# Altium footprint library LASER_DIAGNOSTIC_BOARD.PcbLib: 26 footprints (part 2 of 2)
Each footprint in its own frame and in the unit in brackets; x right, y up, seen from the top. Pads: shape width x height; smd on the part's side, far side on the other; paste and mask are expansions set on the pad; w line width, h text height; cw(c..) or ccw(c..) is an arc to the next point about the centre after c.
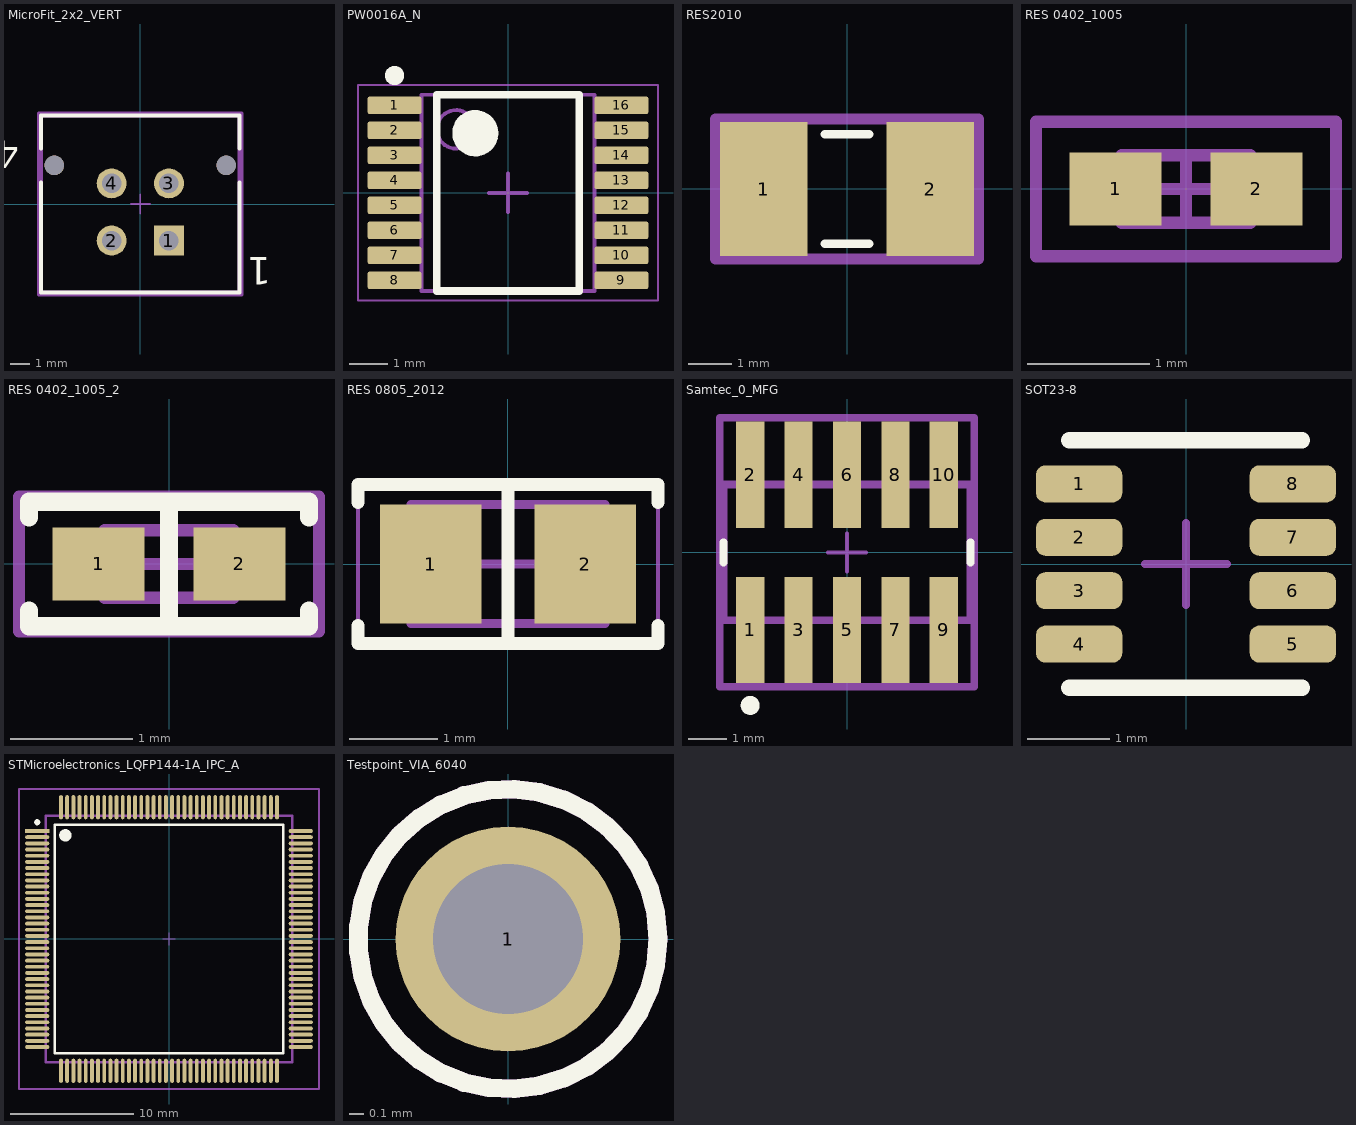
[diagram p1: the footprints below, top view; thin cyan lines are the x and y axes]

## MicroFit_2x2_VERT [mm]
pads (6):
  rect 1.57x1.57 hole 1.02 paste-2539.97: 1(1.5,-1.915)
  round 1.57 hole 1.02 paste-2539.97: 2(-1.5,-1.915) 3(1.5,1.085) 4(-1.5,1.085)
  round 1.02 hole 1.02 unplated paste-2539.97 mask+0: ""(-4.5,2.025) ""(4.5,2.025)
Top Overlay:
  lines w0.2: -5.2,1.14 -5.2,-4.635 5.2,-4.635 5.2,1.14 ; -5.2,2.91 -5.2,4.635 5.2,4.635 5.2,2.91
  text "1" at 6.858,-2.286 h2.5
  text "4" at -6.35,3.81 h2.5
Bottom Designator:
  lines w0.2: -5.3,-4.735 -5.3,4.735 5.3,4.735 5.3,-4.735 -5.3,-4.735
  text ".Designator" at 0,-0.001 h1
Mechanical 12:
  lines w0.2: -5.2,-4.635 -5.2,4.635 5.2,4.635 5.2,-4.635 -5.2,-4.635
Mechanical 15:
  lines w0.1: -0.5,0 0.5,0 ; 0,-0.5 0,0.5
  lines w0.2: -5.3,-4.735 -5.3,4.735 5.3,4.735 5.3,-4.735 -5.3,-4.735
3D body "Conn_Molex_43045-0427_eec.STEP": height 0.25, standoff 0, extent -5.3,-4.735 5.3,4.735

## PW0016A_N [mm] "SOP, 16-Leads, Body 5.1x4.5mm, Pitch 0.65mm, IPC Medium Density"
height 1.2
pads (16):
  rrect22% 1.4x0.45 smd: 1(-2.95,2.275) 2(-2.95,1.625) 3(-2.95,0.975) 4(-2.95,0.325) 5(-2.95,-0.325) 6(-2.95,-0.975) 7(-2.95,-1.625) 8(-2.95,-2.275) 9(2.95,-2.275) 10(2.95,-1.625) 11(2.95,-0.975) 12(2.95,-0.325) 13(2.95,0.325) 14(2.95,0.975) 15(2.95,1.625) 16(2.95,2.275)
Top Overlay:
  circle w0.6: c-0.85,1.55 r0.3
  circle w0.25: c-2.95,3.05 r0.125
  lines w0.2: -1.85,-2.55 1.85,-2.55 1.85,2.55 -1.85,2.55 -1.85,-2.55
Mechanical 1:
  text ".Designator" at -1.524,-0.508 h1.02
Mechanical 13:
  circle w0.1: c-1.35,1.65 r0.5
  lines w0.1: -2.25,-2.55 2.25,-2.55 2.25,2.55 -2.25,2.55 -2.25,-2.55
Mechanical 15:
  lines w0.05: -3.9,-2.8 3.9,-2.8 3.9,2.8 -3.9,2.8 -3.9,-2.8
  lines w0.1: -0.5,0 0.5,0 ; 0,-0.5 0,0.5
3D body "PW0016AakaMTC16.stp": height 1, standoff 0, extent -3.21,-2.5 3.21,2.5

## RES2010 [mm]
pads (2):
  rect 2x3.05 smd: 1(-1.9,0) 2(1.9,0)
Top Overlay:
  lines w0.2: -0.5,-1.25 0.5,-1.25 ; -0.5,1.25 0.5,1.25
Top Designator:
  lines w0.254: -3,-1.6 3,-1.6 3,1.6 -3,1.6 -3,-1.6
  text ".Designator" at -6.348,-0.423 h1.27
3D body "WSLP2010 (0.001 to 0.0069).STEP": height 0.66, standoff 0, extent -2.54,-1.27 2.54,1.27

## RES 0402_1005 [mm]
pads (2):
  rect 0.75x0.6 smd: 1(-0.575,0) 2(0.575,0)
Top Designator:
  lines w0.1: -0.525,-0.275 0.525,-0.275 0.525,0.275 -0.525,0.275 -0.525,-0.275
  text ".Designator" at -0.681,-0.156 h0.25
Mechanical 15:
  lines w0.1: -0.275,0 0.275,0 ; 0,-0.275 0,0.275 ; -1.225,-0.55 1.225,-0.55 1.225,0.55 -1.225,0.55 -1.225,-0.55
3D body "0402 resistor.STEP": height 0.35, standoff 0, extent -0.5,-0.25 0.5,0.25

## RES 0402_1005_2 [mm]
pads (2):
  rect 0.75x0.6 smd: 1(-0.575,0) 2(0.575,0)
Top Overlay:
  lines w0.15: -1.143,-0.381 -1.143,-0.508 1.143,-0.508 1.143,-0.381 ; -1.143,0.381 -1.143,0.508 1.143,0.508 1.143,0.381 ; 0,-0.508 0,0.508
Mechanical 13:
  lines w0.1: -0.525,-0.275 -0.525,0.275 0.525,0.275 0.525,-0.275 -0.525,-0.275
Mechanical 15:
  lines w0.1: -0.275,0 0.275,0 ; 0,-0.275 0,0.275 ; -1.225,-0.55 -1.225,0.55 1.225,0.55 1.225,-0.55 -1.225,-0.55
3D body "0402 resistor.STEP": height 0.35, standoff 0, extent -0.5,-0.25 0.5,0.25

## RES 0805_2012 [mm] "Chip Resistor, 2-Leads, Body 2.00x1.25mm, IPC Medium Density"
height 0.7
pads (2):
  rect 1.15x1.35 smd: 1(-0.875,0) 2(0.875,0)
Top Overlay:
  lines w0.15: -1.7,-0.7 -1.7,-0.9 1.7,-0.9 1.7,-0.7 ; -1.7,0.7 -1.7,0.9 1.7,0.9 1.7,0.7 ; 0,-0.9 0,0.9
Mechanical 13:
  lines w0.1: -1.1,-0.675 -1.1,0.675 1.1,0.675 1.1,-0.675 -1.1,-0.675
Mechanical 15:
  lines w0.05: -1.7,-0.95 -1.7,0.95 1.7,0.95 1.7,-0.95 -1.7,-0.95
  lines w0.1: -0.5,0 0.5,0 ; 0,-0.5 0,0.5
3D body "0805 resistor.STEP": height 0.6, standoff 0, extent -1,-0.625 1,0.625

## Samtec_0_MFG [mm]
pads (10):
  rect 0.74x2.79 smd: 1(-2.54,-2.035) 2(-2.54,2.035) 3(-1.27,-2.035) 4(-1.27,2.035) 5(0,-2.035) 6(0,2.035) 7(1.27,-2.035) 8(1.27,2.035) 9(2.54,-2.035) 10(2.54,2.035)
Top Overlay:
  circle w0.25: c-2.54,-4.015 r0.125
  lines w0.2: -3.24,-0.265 -3.24,0.265 ; 3.24,-0.265 3.24,0.265
Bottom Designator:
  lines w0.2: -3.34,-3.53 -3.34,3.53 3.34,3.53 3.34,-3.53 -3.34,-3.53
  text ".Designator" at 0,-0.001 h1
Mechanical 12:
  lines w0.2: -3.24,-1.78 -3.24,1.78 3.24,1.78 3.24,-1.78 -3.24,-1.78
Mechanical 15:
  lines w0.1: -0.5,0 0.5,0 ; 0,-0.5 0,0.5
  lines w0.2: -3.34,-3.53 -3.34,3.53 3.34,3.53 3.34,-3.53 -3.34,-3.53
3D body "Conn_Samtec_FTSH-105-01-F-DV-K-P-TR_eec.STEP": height 0.25, standoff 0, extent -3.34,-3.53 3.34,3.53

## SOT23-8 [mm]
pads (8):
  rrect50% 1.05x0.45 smd: 1(-1.3,0.975) 2(-1.3,0.325) 3(-1.3,-0.325) 4(-1.3,-0.975) 5(1.3,-0.975) 6(1.3,-0.325) 7(1.3,0.325) 8(1.3,0.975)
Top Overlay:
  lines w0.2: -1.42,-1.505 1.411,-1.505 ; -1.42,1.505 1.411,1.505
Mechanical 15:
  lines w0.1: -0.5,0 0.5,0 ; 0,-0.5 0,0.5
3D body "SOT23-8.stp": height 1.2, standoff 0.02, extent -1.418,-1.5 1.418,1.5

## STMicroelectronics_LQFP144-1A_IPC_A [mm]
pads (144):
  rect 1.955x0.312 smd: 1(-10.675,8.75)
  rrect100% 1.955x0.312 smd: 2(-10.675,8.25) 3(-10.675,7.75) 4(-10.675,7.25) 5(-10.675,6.75) 6(-10.675,6.25) 7(-10.675,5.75) 8(-10.675,5.25) 9(-10.675,4.75) 10(-10.675,4.25) 11(-10.675,3.75) 12(-10.675,3.25) 13(-10.675,2.75) 14(-10.675,2.25) 15(-10.675,1.75) 16(-10.675,1.25) 17(-10.675,0.75) 18(-10.675,0.25) 19(-10.675,-0.25) 20(-10.675,-0.75) 21(-10.675,-1.25) 22(-10.675,-1.75) 23(-10.675,-2.25) 24(-10.675,-2.75) 25(-10.675,-3.25) 26(-10.675,-3.75) 27(-10.675,-4.25) 28(-10.675,-4.75) 29(-10.675,-5.25) 30(-10.675,-5.75) 31(-10.675,-6.25) 32(-10.675,-6.75) 33(-10.675,-7.25) 34(-10.675,-7.75) 35(-10.675,-8.25) 36(-10.675,-8.75) 73(10.675,-8.75) 74(10.675,-8.25) 75(10.675,-7.75) 76(10.675,-7.25) 77(10.675,-6.75) 78(10.675,-6.25) 79(10.675,-5.75) 80(10.675,-5.25) 81(10.675,-4.75) 82(10.675,-4.25) 83(10.675,-3.75) 84(10.675,-3.25) 85(10.675,-2.75) 86(10.675,-2.25) 87(10.675,-1.75) 88(10.675,-1.25) 89(10.675,-0.75) 90(10.675,-0.25) 91(10.675,0.25) 92(10.675,0.75) 93(10.675,1.25) 94(10.675,1.75) 95(10.675,2.25) 96(10.675,2.75) 97(10.675,3.25) 98(10.675,3.75) 99(10.675,4.25) 100(10.675,4.75) 101(10.675,5.25) 102(10.675,5.75) 103(10.675,6.25) 104(10.675,6.75) 105(10.675,7.25) 106(10.675,7.75) 107(10.675,8.25) 108(10.675,8.75)
  rrect100% 0.312x1.955 smd: 37(-8.75,-10.675) 38(-8.25,-10.675) 39(-7.75,-10.675) 40(-7.25,-10.675) 41(-6.75,-10.675) 42(-6.25,-10.675) 43(-5.75,-10.675) 44(-5.25,-10.675) 45(-4.75,-10.675) 46(-4.25,-10.675) 47(-3.75,-10.675) 48(-3.25,-10.675) 49(-2.75,-10.675) 50(-2.25,-10.675) 51(-1.75,-10.675) 52(-1.25,-10.675) 53(-0.75,-10.675) 54(-0.25,-10.675) 55(0.25,-10.675) 56(0.75,-10.675) 57(1.25,-10.675) 58(1.75,-10.675) 59(2.25,-10.675) 60(2.75,-10.675) 61(3.25,-10.675) 62(3.75,-10.675) 63(4.25,-10.675) 64(4.75,-10.675) 65(5.25,-10.675) 66(5.75,-10.675) 67(6.25,-10.675) 68(6.75,-10.675) 69(7.25,-10.675) 70(7.75,-10.675) 71(8.25,-10.675) 72(8.75,-10.675) 109(8.75,10.675) 110(8.25,10.675) 111(7.75,10.675) 112(7.25,10.675) 113(6.75,10.675) 114(6.25,10.675) 115(5.75,10.675) 116(5.25,10.675) 117(4.75,10.675) 118(4.25,10.675) 119(3.75,10.675) 120(3.25,10.675) 121(2.75,10.675) 122(2.25,10.675) 123(1.75,10.675) 124(1.25,10.675) 125(0.75,10.675) 126(0.25,10.675) 127(-0.25,10.675) 128(-0.75,10.675) 129(-1.25,10.675) 130(-1.75,10.675) 131(-2.25,10.675) 132(-2.75,10.675) 133(-3.25,10.675) 134(-3.75,10.675) 135(-4.25,10.675) 136(-4.75,10.675) 137(-5.25,10.675) 138(-5.75,10.675) 139(-6.25,10.675) 140(-6.75,10.675) 141(-7.25,10.675) 142(-7.75,10.675) 143(-8.25,10.675) 144(-8.75,10.675)
Top Overlay:
  circle w0.5: c-8.4,8.4 r0.25
  circle w0.25: c-10.675,9.46 r0.125
  lines w0.2: -9.25,-9.25 -9.25,9.25 9.25,9.25 9.25,-9.25 -9.25,-9.25
Bottom Designator:
  lines w0.2: -12.153,-12.153 -12.153,12.153 12.153,12.153 12.153,-12.153 -12.153,-12.153
  text ".Designator" at 0,-0.001 h1
Mechanical 12:
  lines w0.2: -10,-10 -10,10 10,10 10,-10 -10,-10
Mechanical 15:
  lines w0.1: -0.5,0 0.5,0 ; 0,-0.5 0,0.5
  lines w0.2: -12.153,-12.153 -12.153,12.153 12.153,12.153 12.153,-12.153 -12.153,-12.153
3D body "IC_STMicroelectronics_STM32H723ZGT6_eec.STEP": height 0.25, standoff 0, extent -12.153,-12.153 12.153,12.153

## Testpoint_VIA_6040 [mil]
pads (1):
  round 60 hole 40: 1(-0.01,0)
Top Overlay:
  circle w5: c-0.01,0 r40
Mechanical 15:
  circle w5: c-0.01,0 r40